# Altium schematic symbol library STM32G491CCU6.SchLib: 1 symbol
Pins are listed as number, name and electrical type; pins without a type are passive.

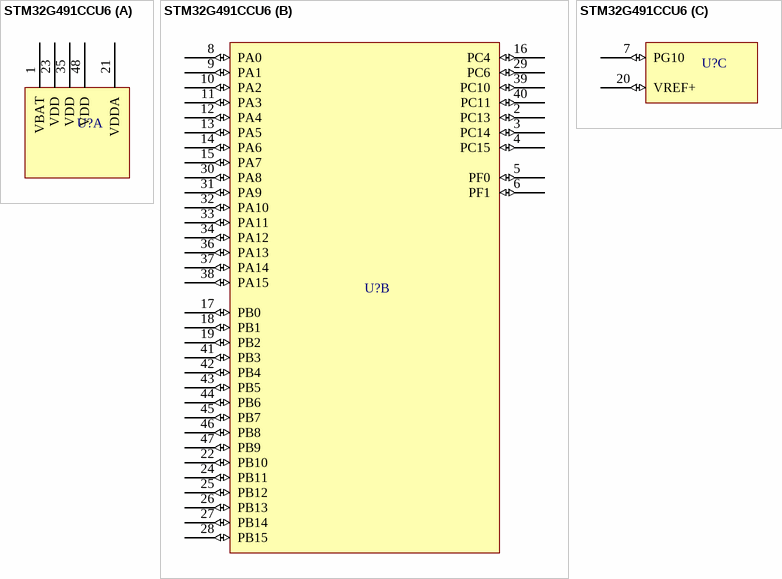
[diagram p0: symbol STM32G491CCU6]

## STM32G491CCU6
designator U?  (value not drawn)
Mainstream Arm Cortex-M4 MCU 170 MHz with 256 Kbytes of Flash memory, Math Accelerator, High Analog level integration
part A pins: 1 VBAT (power), 21 VDDA (power), 23 VDD (power), 35 VDD (power), 48 VDD (power)
part B pins: 2 PC13 (io), 3 PC14 (io), 4 PC15 (io), 5 PF0 (io), 6 PF1 (io), 8 PA0 (io), 9 PA1 (io), 10 PA2 (io), 11 PA3 (io), 12 PA4 (io), 13 PA5 (io), 14 PA6 (io), 15 PA7 (io), 16 PC4 (io), 17 PB0 (io), 18 PB1 (io), 19 PB2 (io), 22 PB10 (io), 24 PB11 (io), 25 PB12 (io), 26 PB13 (io), 27 PB14 (io), 28 PB15 (io), 29 PC6 (io), 30 PA8 (io), 31 PA9 (io), 32 PA10 (io), 33 PA11 (io), 34 PA12 (io), 36 PA13 (io), 37 PA14 (io), 38 PA15 (io), 39 PC10 (io), 40 PC11 (io), 41 PB3 (io), 42 PB4 (io), 43 PB5 (io), 44 PB6 (io), 45 PB7 (io), 46 PB8 (io), 47 PB9 (io)
part C pins: 7 PG10 (io), 20 VREF+ (io)